# Altium schematic symbol library kmilo17pet-NSC_Amplifier.SchLib: 1665 symbols (part 11 of 44)
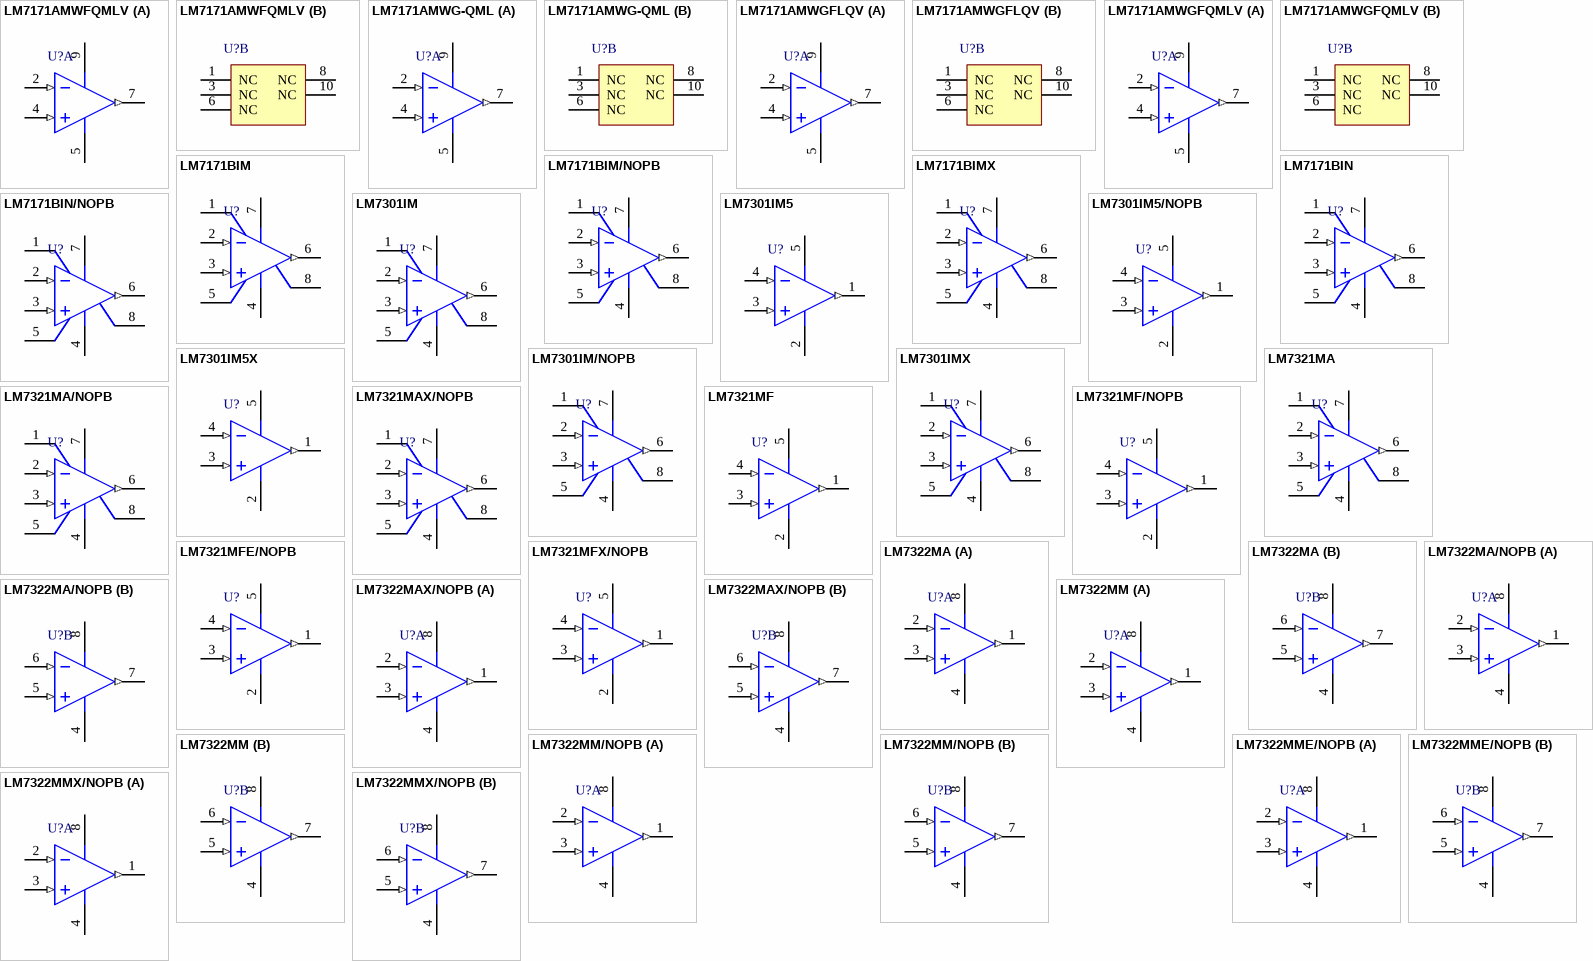
[diagram p94: symbols LM7171AMWFQMLV to LM7322MMX/NOPB]

## LM7322MM/NOPB
designator U?
Dual Rail-to-Rail Input/Output, ±15V, High Output Current and Unlimited Capacitive Load Operational Amplifier, 8-pin Mini SOIC, Pb-Free; PartNumber: LM7322MM/NOPB; Manufacturer: National Semiconductor; PackageTopMarking: ZXTT*AZ4A; PowerWise: Y; CompType: Amplifiers; DatasheetVersion: Sep-2008; PackageVersion: revF, Apr-2008; PackageReference: MUA08A; PackageDescription: MINI SOIC, .118 x .118 x .034in, 8 Lead, .0256in Pitch; RoHS: Y; PinCount: 8; High-Reliability: Y; Code_JEDEC: MO-187-AA; ComponentLink1Description: Manufacturer URL; ComponentLink1URL: http://www.national.com/; ComponentLink2Description: LM7322 Datasheet; ComponentLink2URL: http://www.national.com/ds/LM/LM7322.pdf; ComponentLink3Description: LM7322 Web Page; ComponentLink3URL: http://www.national.com/pf/LM/LM7322.html; ComponentLink4Description: MUA08A Package Page; ComponentLink4URL: http://www.national.com/packaging/folders/mua08a.html
footprint MUA08A_N (TSOP, 8-Leads, Body 3x3mm, Pitch 0.65mm, IPC Medium Density)
footprint MUA08A_L (TSOP, 8-Leads, Body 3x3mm, Pitch 0.65mm, IPC High Density)
footprint MUA08A_M (TSOP, 8-Leads, Body 3x3mm, Pitch 0.65mm, IPC Low Density)
pins on every part: 4 V- (power), 8 V+ (power)
part A pins: 1 OUTA (out), 2 INA- (in), 3 INA+ (in)
part B pins: 5 INB+ (in), 6 INB- (in), 7 OUTB (out)

## LM7322MME/NOPB
designator U?
Dual Rail-to-Rail Input/Output, ±15V, High Output Current and Unlimited Capacitive Load Operational Amplifier, 8-pin Mini SOIC, Pb-Free; PartNumber: LM7322MME/NOPB; Manufacturer: National Semiconductor; PackageTopMarking: ZXTT*AZ4A; PowerWise: Y; CompType: Amplifiers; DatasheetVersion: Sep-2008; PackageVersion: revF, Apr-2008; PackageReference: MUA08A; PackageDescription: MINI SOIC, .118 x .118 x .034in, 8 Lead, .0256in Pitch; RoHS: Y; PinCount: 8; High-Reliability: Y; Code_JEDEC: MO-187-AA; ComponentLink1Description: Manufacturer URL; ComponentLink1URL: http://www.national.com/; ComponentLink2Description: LM7322 Datasheet; ComponentLink2URL: http://www.national.com/ds/LM/LM7322.pdf; ComponentLink3Description: LM7322 Web Page; ComponentLink3URL: http://www.national.com/pf/LM/LM7322.html; ComponentLink4Description: MUA08A Package Page; ComponentLink4URL: http://www.national.com/packaging/folders/mua08a.html
footprint MUA08A_N (TSOP, 8-Leads, Body 3x3mm, Pitch 0.65mm, IPC Medium Density)
footprint MUA08A_L (TSOP, 8-Leads, Body 3x3mm, Pitch 0.65mm, IPC High Density)
footprint MUA08A_M (TSOP, 8-Leads, Body 3x3mm, Pitch 0.65mm, IPC Low Density)
pins on every part: 4 V- (power), 8 V+ (power)
part A pins: 1 OUTA (out), 2 INA- (in), 3 INA+ (in)
part B pins: 5 INB+ (in), 6 INB- (in), 7 OUTB (out)

## LM7322MMX/NOPB
designator U?
Dual Rail-to-Rail Input/Output, ±15V, High Output Current and Unlimited Capacitive Load Operational Amplifier, 8-pin Mini SOIC, Pb-Free; PartNumber: LM7322MMX/NOPB; Manufacturer: National Semiconductor; PackageTopMarking: ZXTT*AZ4A; PowerWise: Y; CompType: Amplifiers; DatasheetVersion: Sep-2008; PackageVersion: revF, Apr-2008; PackageReference: MUA08A; PackageDescription: MINI SOIC, .118 x .118 x .034in, 8 Lead, .0256in Pitch; RoHS: Y; PinCount: 8; High-Reliability: Y; Code_JEDEC: MO-187-AA; ComponentLink1Description: Manufacturer URL; ComponentLink1URL: http://www.national.com/; ComponentLink2Description: LM7322 Datasheet; ComponentLink2URL: http://www.national.com/ds/LM/LM7322.pdf; ComponentLink3Description: LM7322 Web Page; ComponentLink3URL: http://www.national.com/pf/LM/LM7322.html; ComponentLink4Description: MUA08A Package Page; ComponentLink4URL: http://www.national.com/packaging/folders/mua08a.html
footprint MUA08A_N (TSOP, 8-Leads, Body 3x3mm, Pitch 0.65mm, IPC Medium Density)
footprint MUA08A_L (TSOP, 8-Leads, Body 3x3mm, Pitch 0.65mm, IPC High Density)
footprint MUA08A_M (TSOP, 8-Leads, Body 3x3mm, Pitch 0.65mm, IPC Low Density)
pins on every part: 4 V- (power), 8 V+ (power)
part A pins: 1 OUTA (out), 2 INA- (in), 3 INA+ (in)
part B pins: 5 INB+ (in), 6 INB- (in), 7 OUTB (out)

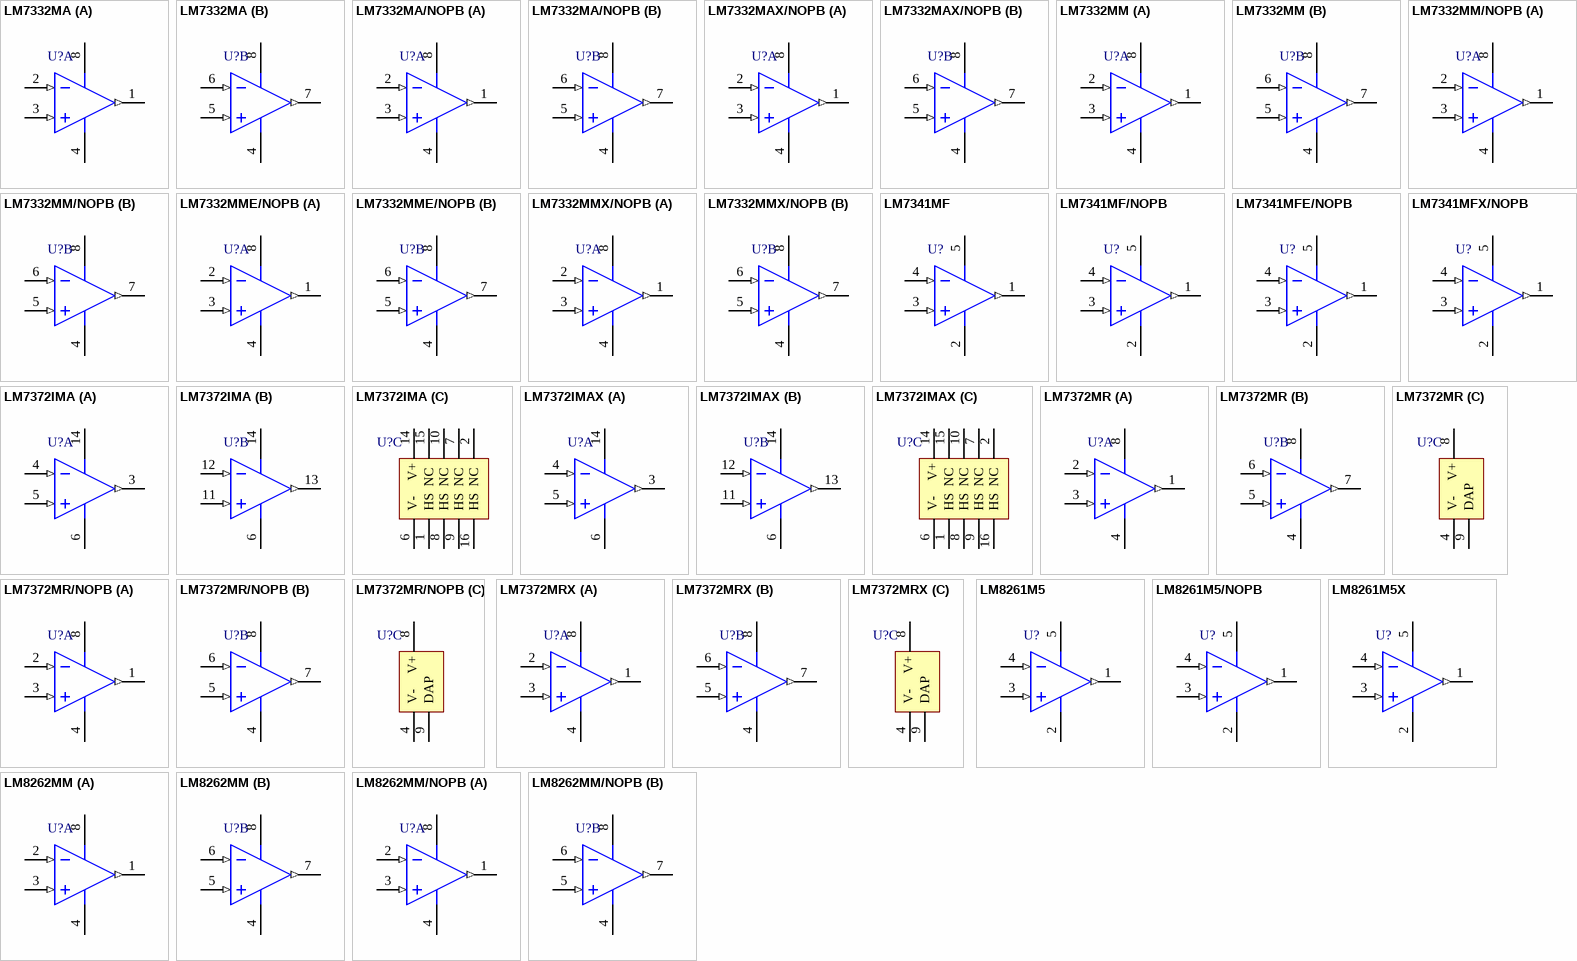
[diagram p24: symbols LM7332MA to LM8262MM/NOPB]

## LM7332MA
designator U?
Dual Rail-to-Rail Input/Output, 30V, Wide Voltage Range, High Output Operational Amplifier, 8-pin Narrow SOIC; PartNumber: LM7332MA; Manufacturer: National Semiconductor; PackageTopMarking: NSZXTT*LM733*2MA; PowerWise: N; CompType: Amplifiers; High-Reliability: Y; DatasheetVersion: Apr-2008; PackageVersion: revM, May-2009; PackageReference: M08A; PackageDescription: SOIC Narrow, 4.9 x 3.9 x 1.45mm, 8 Lead, 1.27mm Pitch; RoHS: Y; PinCount: 8; Code_JEDEC: MS-012-AA; Code_IPC: SOIC127P600-8; ComponentLink1Description: Manufacturer URL; ComponentLink1URL: http://www.national.com/; ComponentLink2Description: LM7332 Datasheet; ComponentLink2URL: http://www.national.com/ds/LM/LM7332.pdf; ComponentLink3Description: LM7332 Web Page; ComponentLink3URL: http://www.national.com/pf/LM/LM7332.html; ComponentLink4Description: M08A Package Page; ComponentLink4URL: http://www.national.com/packaging/folders/m08a.html
footprint M08A_N (SOIC, 8-Leads, Body 4.9x3.9mm, Pitch 1.27mm, IPC Medium Density)
footprint M08A_L (SOIC, 8-Leads, Body 4.9x3.9mm, Pitch 1.27mm, IPC High Density)
footprint M08A_M (SOIC, 8-Leads, Body 4.9x3.9mm, Pitch 1.27mm, IPC Low Density)
pins on every part: 4 V- (power), 8 V+ (power)
part A pins: 1 OUTA (out), 2 INA- (in), 3 INA+ (in)
part B pins: 5 INB+ (in), 6 INB- (in), 7 OUTB (out)

## LM7332MA/NOPB
designator U?
Dual Rail-to-Rail Input/Output, 30V, Wide Voltage Range, High Output Operational Amplifier, 8-pin Narrow SOIC, Pb-Free; PartNumber: LM7332MA/NOPB; Manufacturer: National Semiconductor; PackageTopMarking: NSZXTT*LM733*2MA; PowerWise: N; CompType: Amplifiers; High-Reliability: Y; DatasheetVersion: Apr-2008; PackageVersion: revM, May-2009; PackageReference: M08A; PackageDescription: SOIC Narrow, 4.9 x 3.9 x 1.45mm, 8 Lead, 1.27mm Pitch; RoHS: Y; PinCount: 8; Code_JEDEC: MS-012-AA; Code_IPC: SOIC127P600-8; ComponentLink1Description: Manufacturer URL; ComponentLink1URL: http://www.national.com/; ComponentLink2Description: LM7332 Datasheet; ComponentLink2URL: http://www.national.com/ds/LM/LM7332.pdf; ComponentLink3Description: LM7332 Web Page; ComponentLink3URL: http://www.national.com/pf/LM/LM7332.html; ComponentLink4Description: M08A Package Page; ComponentLink4URL: http://www.national.com/packaging/folders/m08a.html
footprint M08A_N (SOIC, 8-Leads, Body 4.9x3.9mm, Pitch 1.27mm, IPC Medium Density)
footprint M08A_L (SOIC, 8-Leads, Body 4.9x3.9mm, Pitch 1.27mm, IPC High Density)
footprint M08A_M (SOIC, 8-Leads, Body 4.9x3.9mm, Pitch 1.27mm, IPC Low Density)
pins on every part: 4 V- (power), 8 V+ (power)
part A pins: 1 OUTA (out), 2 INA- (in), 3 INA+ (in)
part B pins: 5 INB+ (in), 6 INB- (in), 7 OUTB (out)

## LM7332MAX/NOPB
designator U?
Dual Rail-to-Rail Input/Output, 30V, Wide Voltage Range, High Output Operational Amplifier, 8-pin Narrow SOIC, Pb-Free; PartNumber: LM7332MAX/NOPB; Manufacturer: National Semiconductor; PackageTopMarking: NSZXTT*LM733*2MA; PowerWise: N; CompType: Amplifiers; High-Reliability: Y; DatasheetVersion: Apr-2008; PackageVersion: revM, May-2009; PackageReference: M08A; PackageDescription: SOIC Narrow, 4.9 x 3.9 x 1.45mm, 8 Lead, 1.27mm Pitch; RoHS: Y; PinCount: 8; Code_JEDEC: MS-012-AA; Code_IPC: SOIC127P600-8; ComponentLink1Description: Manufacturer URL; ComponentLink1URL: http://www.national.com/; ComponentLink2Description: LM7332 Datasheet; ComponentLink2URL: http://www.national.com/ds/LM/LM7332.pdf; ComponentLink3Description: LM7332 Web Page; ComponentLink3URL: http://www.national.com/pf/LM/LM7332.html; ComponentLink4Description: M08A Package Page; ComponentLink4URL: http://www.national.com/packaging/folders/m08a.html
footprint M08A_N (SOIC, 8-Leads, Body 4.9x3.9mm, Pitch 1.27mm, IPC Medium Density)
footprint M08A_L (SOIC, 8-Leads, Body 4.9x3.9mm, Pitch 1.27mm, IPC High Density)
footprint M08A_M (SOIC, 8-Leads, Body 4.9x3.9mm, Pitch 1.27mm, IPC Low Density)
pins on every part: 4 V- (power), 8 V+ (power)
part A pins: 1 OUTA (out), 2 INA- (in), 3 INA+ (in)
part B pins: 5 INB+ (in), 6 INB- (in), 7 OUTB (out)

## LM7332MM
designator U?
Dual Rail-to-Rail Input/Output, 30V, Wide Voltage Range, High Output Operational Amplifier, 8-pin Mini SOIC; PartNumber: LM7332MM; Manufacturer: National Semiconductor; PackageTopMarking: ZXTT*AA5A; PowerWise: N; CompType: Amplifiers; High-Reliability: Y; DatasheetVersion: Apr-2008; PackageVersion: revF, Apr-2008; PackageReference: MUA08A; PackageDescription: MINI SOIC, .118 x .118 x .034in, 8 Lead, .0256in Pitch; RoHS: Y; PinCount: 8; Code_JEDEC: MO-187-AA; ComponentLink1Description: Manufacturer URL; ComponentLink1URL: http://www.national.com/; ComponentLink2Description: LM7332 Datasheet; ComponentLink2URL: http://www.national.com/ds/LM/LM7332.pdf; ComponentLink3Description: LM7332 Web Page; ComponentLink3URL: http://www.national.com/pf/LM/LM7332.html; ComponentLink4Description: MUA08A Package Page; ComponentLink4URL: http://www.national.com/packaging/folders/mua08a.html
footprint MUA08A_N (TSOP, 8-Leads, Body 3x3mm, Pitch 0.65mm, IPC Medium Density)
footprint MUA08A_L (TSOP, 8-Leads, Body 3x3mm, Pitch 0.65mm, IPC High Density)
footprint MUA08A_M (TSOP, 8-Leads, Body 3x3mm, Pitch 0.65mm, IPC Low Density)
pins on every part: 4 V- (power), 8 V+ (power)
part A pins: 1 OUTA (out), 2 INA- (in), 3 INA+ (in)
part B pins: 5 INB+ (in), 6 INB- (in), 7 OUTB (out)

## LM7332MM/NOPB
designator U?
Dual Rail-to-Rail Input/Output, 30V, Wide Voltage Range, High Output Operational Amplifier, 8-pin Mini SOIC, Pb-Free; PartNumber: LM7332MM/NOPB; Manufacturer: National Semiconductor; PackageTopMarking: ZXTT*AA5A; PowerWise: N; CompType: Amplifiers; High-Reliability: Y; DatasheetVersion: Apr-2008; PackageVersion: revF, Apr-2008; PackageReference: MUA08A; PackageDescription: MINI SOIC, .118 x .118 x .034in, 8 Lead, .0256in Pitch; RoHS: Y; PinCount: 8; Code_JEDEC: MO-187-AA; ComponentLink1Description: Manufacturer URL; ComponentLink1URL: http://www.national.com/; ComponentLink2Description: LM7332 Datasheet; ComponentLink2URL: http://www.national.com/ds/LM/LM7332.pdf; ComponentLink3Description: LM7332 Web Page; ComponentLink3URL: http://www.national.com/pf/LM/LM7332.html; ComponentLink4Description: MUA08A Package Page; ComponentLink4URL: http://www.national.com/packaging/folders/mua08a.html
footprint MUA08A_N (TSOP, 8-Leads, Body 3x3mm, Pitch 0.65mm, IPC Medium Density)
footprint MUA08A_L (TSOP, 8-Leads, Body 3x3mm, Pitch 0.65mm, IPC High Density)
footprint MUA08A_M (TSOP, 8-Leads, Body 3x3mm, Pitch 0.65mm, IPC Low Density)
pins on every part: 4 V- (power), 8 V+ (power)
part A pins: 1 OUTA (out), 2 INA- (in), 3 INA+ (in)
part B pins: 5 INB+ (in), 6 INB- (in), 7 OUTB (out)

## LM7332MME/NOPB
designator U?
Dual Rail-to-Rail Input/Output, 30V, Wide Voltage Range, High Output Operational Amplifier, 8-pin Mini SOIC, Pb-Free; PartNumber: LM7332MME/NOPB; Manufacturer: National Semiconductor; PackageTopMarking: ZXTT*AA5A; PowerWise: N; CompType: Amplifiers; High-Reliability: Y; DatasheetVersion: Apr-2008; PackageVersion: revF, Apr-2008; PackageReference: MUA08A; PackageDescription: MINI SOIC, .118 x .118 x .034in, 8 Lead, .0256in Pitch; RoHS: Y; PinCount: 8; Code_JEDEC: MO-187-AA; ComponentLink1Description: Manufacturer URL; ComponentLink1URL: http://www.national.com/; ComponentLink2Description: LM7332 Datasheet; ComponentLink2URL: http://www.national.com/ds/LM/LM7332.pdf; ComponentLink3Description: LM7332 Web Page; ComponentLink3URL: http://www.national.com/pf/LM/LM7332.html; ComponentLink4Description: MUA08A Package Page; ComponentLink4URL: http://www.national.com/packaging/folders/mua08a.html
footprint MUA08A_N (TSOP, 8-Leads, Body 3x3mm, Pitch 0.65mm, IPC Medium Density)
footprint MUA08A_L (TSOP, 8-Leads, Body 3x3mm, Pitch 0.65mm, IPC High Density)
footprint MUA08A_M (TSOP, 8-Leads, Body 3x3mm, Pitch 0.65mm, IPC Low Density)
pins on every part: 4 V- (power), 8 V+ (power)
part A pins: 1 OUTA (out), 2 INA- (in), 3 INA+ (in)
part B pins: 5 INB+ (in), 6 INB- (in), 7 OUTB (out)

## LM7332MMX/NOPB
designator U?
Dual Rail-to-Rail Input/Output, 30V, Wide Voltage Range, High Output Operational Amplifier, 8-pin Mini SOIC, Pb-Free; PartNumber: LM7332MMX/NOPB; Manufacturer: National Semiconductor; PackageTopMarking: ZXTT*AA5A; PowerWise: N; CompType: Amplifiers; High-Reliability: Y; DatasheetVersion: Apr-2008; PackageVersion: revF, Apr-2008; PackageReference: MUA08A; PackageDescription: MINI SOIC, .118 x .118 x .034in, 8 Lead, .0256in Pitch; RoHS: Y; PinCount: 8; Code_JEDEC: MO-187-AA; ComponentLink1Description: Manufacturer URL; ComponentLink1URL: http://www.national.com/; ComponentLink2Description: LM7332 Datasheet; ComponentLink2URL: http://www.national.com/ds/LM/LM7332.pdf; ComponentLink3Description: LM7332 Web Page; ComponentLink3URL: http://www.national.com/pf/LM/LM7332.html; ComponentLink4Description: MUA08A Package Page; ComponentLink4URL: http://www.national.com/packaging/folders/mua08a.html
footprint MUA08A_N (TSOP, 8-Leads, Body 3x3mm, Pitch 0.65mm, IPC Medium Density)
footprint MUA08A_L (TSOP, 8-Leads, Body 3x3mm, Pitch 0.65mm, IPC High Density)
footprint MUA08A_M (TSOP, 8-Leads, Body 3x3mm, Pitch 0.65mm, IPC Low Density)
pins on every part: 4 V- (power), 8 V+ (power)
part A pins: 1 OUTA (out), 2 INA- (in), 3 INA+ (in)
part B pins: 5 INB+ (in), 6 INB- (in), 7 OUTB (out)

## LM7341MF
designator U?
Rail-to-Rail Input/Output, ±15V, 4.6 MHz GBW, Operational Amplifier, 5-pin SOT-23; PartNumber: LM7341MF; Manufacturer: National Semiconductor; PackageTopMarking: AV4A*XTT; PowerWise: N; CompType: Amplifiers; High-Reliability: Y; DatasheetVersion: Oct-2008; PackageVersion: revD, Aug-2008; PackageReference: MF05A; PackageDescription: Molded SOT-23, .115 x .063 x .040 in Body, 5 Lead, .0375 in Pitch; RoHS: Y; PinCount: 5; ComponentLink1Description: Manufacturer URL; ComponentLink1URL: http://www.national.com/; ComponentLink2Description: LM7341 Datasheet; ComponentLink2URL: http://www.national.com/ds/LM/LM7341.pdf; ComponentLink3Description: LM7341 Web Page; ComponentLink3URL: http://www.national.com/pf/LM/LM7341.html; ComponentLink4Description: MF05A Package Page; ComponentLink4URL: http://www.national.com/packaging/folders/mf05a.html
footprint MF05A_N (SOT23, 5-Leads, Body 2.9x1.6mm, Pitch 0.95mm, Lead Span 2.8mm, IPC Medium Density)
footprint MF05A_L (SOT23, 5-Leads, Body 2.9x1.6mm, Pitch 0.95mm, Lead Span 2.8mm, IPC High Density)
footprint MF05A_M (SOT23, 5-Leads, Body 2.9x1.6mm, Pitch 0.95mm, Lead Span 2.8mm, IPC Low Density)
pins: 1 OUT (out), 2 V- (power), 3 IN+ (in), 4 IN- (in), 5 V+ (power)

## LM7341MF/NOPB
designator U?
Rail-to-Rail Input/Output, ±15V, 4.6 MHz GBW, Operational Amplifier, 5-pin SOT-23, Pb-Free; PartNumber: LM7341MF/NOPB; Manufacturer: National Semiconductor; PackageTopMarking: AV4A*XTT; PowerWise: N; CompType: Amplifiers; High-Reliability: Y; DatasheetVersion: Oct-2008; PackageVersion: revD, Aug-2008; PackageReference: MF05A; PackageDescription: Molded SOT-23, .115 x .063 x .040 in Body, 5 Lead, .0375 in Pitch; RoHS: Y; PinCount: 5; ComponentLink1Description: Manufacturer URL; ComponentLink1URL: http://www.national.com/; ComponentLink2Description: LM7341 Datasheet; ComponentLink2URL: http://www.national.com/ds/LM/LM7341.pdf; ComponentLink3Description: LM7341 Web Page; ComponentLink3URL: http://www.national.com/pf/LM/LM7341.html; ComponentLink4Description: MF05A Package Page; ComponentLink4URL: http://www.national.com/packaging/folders/mf05a.html
footprint MF05A_N (SOT23, 5-Leads, Body 2.9x1.6mm, Pitch 0.95mm, Lead Span 2.8mm, IPC Medium Density)
footprint MF05A_L (SOT23, 5-Leads, Body 2.9x1.6mm, Pitch 0.95mm, Lead Span 2.8mm, IPC High Density)
footprint MF05A_M (SOT23, 5-Leads, Body 2.9x1.6mm, Pitch 0.95mm, Lead Span 2.8mm, IPC Low Density)
pins: 1 OUT (out), 2 V- (power), 3 IN+ (in), 4 IN- (in), 5 V+ (power)

## LM7341MFE/NOPB
designator U?
Rail-to-Rail Input/Output, ±15V, 4.6 MHz GBW, Operational Amplifier, 5-pin SOT-23, Pb-Free; PartNumber: LM7341MFE/NOPB; Manufacturer: National Semiconductor; PackageTopMarking: AV4A*XTT; PowerWise: N; CompType: Amplifiers; High-Reliability: Y; DatasheetVersion: Oct-2008; PackageVersion: revD, Aug-2008; PackageReference: MF05A; PackageDescription: Molded SOT-23, .115 x .063 x .040 in Body, 5 Lead, .0375 in Pitch; RoHS: Y; PinCount: 5; ComponentLink1Description: Manufacturer URL; ComponentLink1URL: http://www.national.com/; ComponentLink2Description: LM7341 Datasheet; ComponentLink2URL: http://www.national.com/ds/LM/LM7341.pdf; ComponentLink3Description: LM7341 Web Page; ComponentLink3URL: http://www.national.com/pf/LM/LM7341.html; ComponentLink4Description: MF05A Package Page; ComponentLink4URL: http://www.national.com/packaging/folders/mf05a.html
footprint MF05A_N (SOT23, 5-Leads, Body 2.9x1.6mm, Pitch 0.95mm, Lead Span 2.8mm, IPC Medium Density)
footprint MF05A_L (SOT23, 5-Leads, Body 2.9x1.6mm, Pitch 0.95mm, Lead Span 2.8mm, IPC High Density)
footprint MF05A_M (SOT23, 5-Leads, Body 2.9x1.6mm, Pitch 0.95mm, Lead Span 2.8mm, IPC Low Density)
pins: 1 OUT (out), 2 V- (power), 3 IN+ (in), 4 IN- (in), 5 V+ (power)

## LM7341MFX/NOPB
designator U?
Rail-to-Rail Input/Output, ±15V, 4.6 MHz GBW, Operational Amplifier, 5-pin SOT-23, Pb-Free; PartNumber: LM7341MFX/NOPB; Manufacturer: National Semiconductor; PackageTopMarking: AV4A*XTT; PowerWise: N; CompType: Amplifiers; High-Reliability: Y; DatasheetVersion: Oct-2008; PackageVersion: revD, Aug-2008; PackageReference: MF05A; PackageDescription: Molded SOT-23, .115 x .063 x .040 in Body, 5 Lead, .0375 in Pitch; RoHS: Y; PinCount: 5; ComponentLink1Description: Manufacturer URL; ComponentLink1URL: http://www.national.com/; ComponentLink2Description: LM7341 Datasheet; ComponentLink2URL: http://www.national.com/ds/LM/LM7341.pdf; ComponentLink3Description: LM7341 Web Page; ComponentLink3URL: http://www.national.com/pf/LM/LM7341.html; ComponentLink4Description: MF05A Package Page; ComponentLink4URL: http://www.national.com/packaging/folders/mf05a.html
footprint MF05A_N (SOT23, 5-Leads, Body 2.9x1.6mm, Pitch 0.95mm, Lead Span 2.8mm, IPC Medium Density)
footprint MF05A_L (SOT23, 5-Leads, Body 2.9x1.6mm, Pitch 0.95mm, Lead Span 2.8mm, IPC High Density)
footprint MF05A_M (SOT23, 5-Leads, Body 2.9x1.6mm, Pitch 0.95mm, Lead Span 2.8mm, IPC Low Density)
pins: 1 OUT (out), 2 V- (power), 3 IN+ (in), 4 IN- (in), 5 V+ (power)

## LM7372IMA
designator U?
High Speed, High Output Current, Dual Operational Amplifier, 16-pin Narrow SOIC; PartNumber: LM7372IMA; Manufacturer: National Semiconductor; PackageTopMarking: NSUZXYTTE#*LM7372IMA; PowerWise: N; CompType: Amplifiers; High-Reliability: Y; DatasheetVersion: Jun-2008; PackageVersion: revJ, Aug-1995; PackageReference: M16A; PackageDescription: Molded Package, SO, .150in Wide, 16 Lead; RoHS: N; PinCount: 16; Code_JEDEC: MS-012-AC; Code_IPC: SOIC127P600-16; ComponentLink1Description: Manufacturer URL; ComponentLink1URL: http://www.national.com/; ComponentLink2Description: LM7372 Datasheet; ComponentLink2URL: http://www.national.com/ds/LM/LM7372.pdf; ComponentLink3Description: LM7372 Web Page; ComponentLink3URL: http://www.national.com/pf/LM/LM7372.html; ComponentLink4Description: M16A Package Page; ComponentLink4URL: http://www.national.com/packaging/folders/m16a.html
footprint M16A_N (SOIC, 16-Leads, Body 9.9x3.9mm, Pitch 1.27mm, IPC Medium Density)
footprint M16A_L (SOIC, 16-Leads, Body 9.9x3.9mm, Pitch 1.27mm, IPC High Density)
footprint M16A_M (SOIC, 16-Leads, Body 9.9x3.9mm, Pitch 1.27mm, IPC Low Density)
pins on every part: 6 V- (power), 14 V+ (power)
part A pins: 3 OUTA (out), 4 INA- (in), 5 INA+ (in)
part B pins: 11 INB+ (in), 12 INB- (in), 13 OUTB (out)
part C pins: 1 HS, 2 NC, 7 NC, 8 HS, 9 HS, 10 NC, 15 NC, 16 HS

## LM7372IMAX
designator U?
High Speed, High Output Current, Dual Operational Amplifier, 16-pin Narrow SOIC; PartNumber: LM7372IMAX; Manufacturer: National Semiconductor; PackageTopMarking: NSUZXYTTE#*LM7372IMA; PowerWise: N; CompType: Amplifiers; High-Reliability: Y; DatasheetVersion: Jun-2008; PackageVersion: revJ, Aug-1995; PackageReference: M16A; PackageDescription: Molded Package, SO, .150in Wide, 16 Lead; RoHS: N; PinCount: 16; Code_JEDEC: MS-012-AC; Code_IPC: SOIC127P600-16; ComponentLink1Description: Manufacturer URL; ComponentLink1URL: http://www.national.com/; ComponentLink2Description: LM7372 Datasheet; ComponentLink2URL: http://www.national.com/ds/LM/LM7372.pdf; ComponentLink3Description: LM7372 Web Page; ComponentLink3URL: http://www.national.com/pf/LM/LM7372.html; ComponentLink4Description: M16A Package Page; ComponentLink4URL: http://www.national.com/packaging/folders/m16a.html
footprint M16A_N (SOIC, 16-Leads, Body 9.9x3.9mm, Pitch 1.27mm, IPC Medium Density)
footprint M16A_L (SOIC, 16-Leads, Body 9.9x3.9mm, Pitch 1.27mm, IPC High Density)
footprint M16A_M (SOIC, 16-Leads, Body 9.9x3.9mm, Pitch 1.27mm, IPC Low Density)
pins on every part: 6 V- (power), 14 V+ (power)
part A pins: 3 OUTA (out), 4 INA- (in), 5 INA+ (in)
part B pins: 11 INB+ (in), 12 INB- (in), 13 OUTB (out)
part C pins: 1 HS, 2 NC, 7 NC, 8 HS, 9 HS, 10 NC, 15 NC, 16 HS

## LM7372MR
designator U?
High Speed, High Output Current, Dual Operational Amplifier, 9-pin PSOP; PartNumber: LM7372MR; Manufacturer: National Semiconductor; PackageTopMarking: NSXYTT*LM73*72MR; PowerWise: N; CompType: Amplifiers; High-Reliability: Y; DatasheetVersion: Jun-2008; PackageVersion: revB, Dec-2007; PackageReference: MRA08B; PackageDescription: Molded, PSOP .193 x .154 x .058in, 8 Lead, .050in Pitch, Large DAP; RoHS: N; PinCount: 8; Code_JEDEC: MS-012-AA; ComponentLink1Description: Manufacturer URL; ComponentLink1URL: http://www.national.com/; ComponentLink2Description: LM7372 Datasheet; ComponentLink2URL: http://www.national.com/ds/LM/LM7372.pdf; ComponentLink3Description: LM7372 Web Page; ComponentLink3URL: http://www.national.com/pf/LM/LM7372.html; ComponentLink4Description: MRA08B Package Page; ComponentLink4URL: http://www.national.com/packaging/folders/mra08b.html
footprint MRA08B_N (SOIC, 8-Leads, Body 4.9x3.9mm, Pitch 1.27mm, Thermal Pad, IPC Medium Density)
footprint MRA08B_L (SOIC, 8-Leads, Body 4.9x3.9mm, Pitch 1.27mm, Thermal Pad, IPC High Density)
footprint MRA08B_M (SOIC, 8-Leads, Body 4.9x3.9mm, Pitch 1.27mm, Thermal Pad, IPC Low Density)
pins on every part: 4 V- (power), 8 V+ (power)
part A pins: 1 OUTA (out), 2 INA- (in), 3 INA+ (in)
part B pins: 5 INB+ (in), 6 INB- (in), 7 OUTB (out)
part C pins: 9 DAP

## LM7372MR/NOPB
designator U?
High Speed, High Output Current, Dual Operational Amplifier, 8-pin PSOP, Pb-Free; PartNumber: LM7372MR/NOPB; Manufacturer: National Semiconductor; PackageTopMarking: NSXYTT*LM73*72MR; PowerWise: N; CompType: Amplifiers; High-Reliability: Y; DatasheetVersion: Jun-2008; PackageVersion: revB, Dec-2007; PackageReference: MRA08B; PackageDescription: Molded, PSOP .193 x .154 x .058in, 8 Lead, .050in Pitch, Large DAP; RoHS: Y; PinCount: 8; Code_JEDEC: MS-012-AA; ComponentLink1Description: Manufacturer URL; ComponentLink1URL: http://www.national.com/; ComponentLink2Description: LM7372 Datasheet; ComponentLink2URL: http://www.national.com/ds/LM/LM7372.pdf; ComponentLink3Description: LM7372 Web Page; ComponentLink3URL: http://www.national.com/pf/LM/LM7372.html; ComponentLink4Description: MRA08B Package Page; ComponentLink4URL: http://www.national.com/packaging/folders/mra08b.html
footprint MRA08B_N (SOIC, 8-Leads, Body 4.9x3.9mm, Pitch 1.27mm, Thermal Pad, IPC Medium Density)
footprint MRA08B_L (SOIC, 8-Leads, Body 4.9x3.9mm, Pitch 1.27mm, Thermal Pad, IPC High Density)
footprint MRA08B_M (SOIC, 8-Leads, Body 4.9x3.9mm, Pitch 1.27mm, Thermal Pad, IPC Low Density)
pins on every part: 4 V- (power), 8 V+ (power)
part A pins: 1 OUTA (out), 2 INA- (in), 3 INA+ (in)
part B pins: 5 INB+ (in), 6 INB- (in), 7 OUTB (out)
part C pins: 9 DAP

## LM7372MRX
designator U?
High Speed, High Output Current, Dual Operational Amplifier, 8-pin PSOP; PartNumber: LM7372MRX; Manufacturer: National Semiconductor; PackageTopMarking: NSXYTT*LM73*72MR; PowerWise: N; CompType: Amplifiers; High-Reliability: Y; DatasheetVersion: Jun-2008; PackageVersion: revB, Dec-2007; PackageReference: MRA08B; PackageDescription: Molded, PSOP .193 x .154 x .058in, 8 Lead, .050in Pitch, Large DAP; RoHS: N; PinCount: 8; Code_JEDEC: MS-012-AA; ComponentLink1Description: Manufacturer URL; ComponentLink1URL: http://www.national.com/; ComponentLink2Description: LM7372 Datasheet; ComponentLink2URL: http://www.national.com/ds/LM/LM7372.pdf; ComponentLink3Description: LM7372 Web Page; ComponentLink3URL: http://www.national.com/pf/LM/LM7372.html; ComponentLink4Description: MRA08B Package Page; ComponentLink4URL: http://www.national.com/packaging/folders/mra08b.html
footprint MRA08B_N (SOIC, 8-Leads, Body 4.9x3.9mm, Pitch 1.27mm, Thermal Pad, IPC Medium Density)
footprint MRA08B_L (SOIC, 8-Leads, Body 4.9x3.9mm, Pitch 1.27mm, Thermal Pad, IPC High Density)
footprint MRA08B_M (SOIC, 8-Leads, Body 4.9x3.9mm, Pitch 1.27mm, Thermal Pad, IPC Low Density)
pins on every part: 4 V- (power), 8 V+ (power)
part A pins: 1 OUTA (out), 2 INA- (in), 3 INA+ (in)
part B pins: 5 INB+ (in), 6 INB- (in), 7 OUTB (out)
part C pins: 9 DAP

## LM8261M5
designator U?
RRIO, High Output Current & Unlimited Cap Load Op Amp, 5-pin SOT-23; PartNumber: LM8261M5; Manufacturer: National Semiconductor; PackageTopMarking: A45A*XTT; PowerWise: N; CompType: Amplifiers; High-Reliability: Y; DatasheetVersion: Apr-2006; PackageVersion: revD, Aug-2008; PackageReference: MF05A; PackageDescription: Molded SOT-23, .115 x .063 x .040 in Body, 5 Lead, .0375 in Pitch; RoHS: N; PinCount: 5; ComponentLink1Description: Manufacturer URL; ComponentLink1URL: http://www.national.com/; ComponentLink2Description: LM8261 Datasheet; ComponentLink2URL: http://www.national.com/ds/LM/LM8261.pdf; ComponentLink3Description: LM8261 Web Page; ComponentLink3URL: http://www.national.com/pf/LM/LM8261.html; ComponentLink4Description: MF05A Package Page; ComponentLink4URL: http://www.national.com/packaging/folders/mf05a.html
footprint MF05A_N (SOT23, 5-Leads, Body 2.9x1.6mm, Pitch 0.95mm, Lead Span 2.8mm, IPC Medium Density)
footprint MF05A_L (SOT23, 5-Leads, Body 2.9x1.6mm, Pitch 0.95mm, Lead Span 2.8mm, IPC High Density)
footprint MF05A_M (SOT23, 5-Leads, Body 2.9x1.6mm, Pitch 0.95mm, Lead Span 2.8mm, IPC Low Density)
pins: 1 OUT (out), 2 V- (power), 3 IN+ (in), 4 IN- (in), 5 V+ (power)

## LM8261M5/NOPB
designator U?
RRIO, High Output Current & Unlimited Cap Load Op Amp, 5-pin SOT-23, Pb-Free; PartNumber: LM8261M5/NOPB; Manufacturer: National Semiconductor; PackageTopMarking: A45A*XTT; PowerWise: N; CompType: Amplifiers; High-Reliability: Y; DatasheetVersion: Apr-2006; PackageVersion: revD, Aug-2008; PackageReference: MF05A; PackageDescription: Molded SOT-23, .115 x .063 x .040 in Body, 5 Lead, .0375 in Pitch; RoHS: Y; PinCount: 5; ComponentLink1Description: Manufacturer URL; ComponentLink1URL: http://www.national.com/; ComponentLink2Description: LM8261 Datasheet; ComponentLink2URL: http://www.national.com/ds/LM/LM8261.pdf; ComponentLink3Description: LM8261 Web Page; ComponentLink3URL: http://www.national.com/pf/LM/LM8261.html; ComponentLink4Description: MF05A Package Page; ComponentLink4URL: http://www.national.com/packaging/folders/mf05a.html
footprint MF05A_N (SOT23, 5-Leads, Body 2.9x1.6mm, Pitch 0.95mm, Lead Span 2.8mm, IPC Medium Density)
footprint MF05A_L (SOT23, 5-Leads, Body 2.9x1.6mm, Pitch 0.95mm, Lead Span 2.8mm, IPC High Density)
footprint MF05A_M (SOT23, 5-Leads, Body 2.9x1.6mm, Pitch 0.95mm, Lead Span 2.8mm, IPC Low Density)
pins: 1 OUT (out), 2 V- (power), 3 IN+ (in), 4 IN- (in), 5 V+ (power)

## LM8261M5X
designator U?
RRIO, High Output Current & Unlimited Cap Load Op Amp, 5-pin SOT-23; PartNumber: LM8261M5X; Manufacturer: National Semiconductor; PackageTopMarking: A45A*XTT; PowerWise: N; CompType: Amplifiers; High-Reliability: Y; DatasheetVersion: Apr-2006; PackageVersion: revD, Aug-2008; PackageReference: MF05A; PackageDescription: Molded SOT-23, .115 x .063 x .040 in Body, 5 Lead, .0375 in Pitch; RoHS: N; PinCount: 5; ComponentLink1Description: Manufacturer URL; ComponentLink1URL: http://www.national.com/; ComponentLink2Description: LM8261 Datasheet; ComponentLink2URL: http://www.national.com/ds/LM/LM8261.pdf; ComponentLink3Description: LM8261 Web Page; ComponentLink3URL: http://www.national.com/pf/LM/LM8261.html; ComponentLink4Description: MF05A Package Page; ComponentLink4URL: http://www.national.com/packaging/folders/mf05a.html
footprint MF05A_N (SOT23, 5-Leads, Body 2.9x1.6mm, Pitch 0.95mm, Lead Span 2.8mm, IPC Medium Density)
footprint MF05A_L (SOT23, 5-Leads, Body 2.9x1.6mm, Pitch 0.95mm, Lead Span 2.8mm, IPC High Density)
footprint MF05A_M (SOT23, 5-Leads, Body 2.9x1.6mm, Pitch 0.95mm, Lead Span 2.8mm, IPC Low Density)
pins: 1 OUT (out), 2 V- (power), 3 IN+ (in), 4 IN- (in), 5 V+ (power)

## LM8262MM
designator U?
RRIO, High Output Current & Unlimited Cap Load Op Amp, 8-pin Mini SOIC; PartNumber: LM8262MM; Manufacturer: National Semiconductor; PackageTopMarking: ZXTT*A46; PowerWise: N; CompType: Amplifiers; High-Reliability: Y; DatasheetVersion: Jun-2002; PackageVersion: revF, Apr-2008; PackageReference: MUA08A; PackageDescription: MINI SOIC, .118 x .118 x .034in, 8 Lead, .0256in Pitch; RoHS: N; PinCount: 8; Code_JEDEC: MO-187-AA; ComponentLink1Description: Manufacturer URL; ComponentLink1URL: http://www.national.com/; ComponentLink2Description: LM8262 Datasheet; ComponentLink2URL: http://www.national.com/ds/LM/LM8262.pdf; ComponentLink3Description: LM8262 Web Page; ComponentLink3URL: http://www.national.com/pf/LM/LM8262.html; ComponentLink4Description: MUA08A Package Page; ComponentLink4URL: http://www.national.com/packaging/folders/mua08a.html
footprint MUA08A_N (TSOP, 8-Leads, Body 3x3mm, Pitch 0.65mm, IPC Medium Density)
footprint MUA08A_L (TSOP, 8-Leads, Body 3x3mm, Pitch 0.65mm, IPC High Density)
footprint MUA08A_M (TSOP, 8-Leads, Body 3x3mm, Pitch 0.65mm, IPC Low Density)
pins on every part: 4 V- (power), 8 V+ (power)
part A pins: 1 OUTA (out), 2 INA- (in), 3 INA+ (in)
part B pins: 5 INB+ (in), 6 INB- (in), 7 OUTB (out)

## LM8262MM/NOPB
designator U?
RRIO, High Output Current & Unlimited Cap Load Op Amp, 8-pin Mini SOIC, Pb-Free; PartNumber: LM8262MM/NOPB; Manufacturer: National Semiconductor; PackageTopMarking: ZXTT*A46; PowerWise: N; CompType: Amplifiers; High-Reliability: Y; DatasheetVersion: Jun-2002; PackageVersion: revF, Apr-2008; PackageReference: MUA08A; PackageDescription: MINI SOIC, .118 x .118 x .034in, 8 Lead, .0256in Pitch; RoHS: Y; PinCount: 8; Code_JEDEC: MO-187-AA; ComponentLink1Description: Manufacturer URL; ComponentLink1URL: http://www.national.com/; ComponentLink2Description: LM8262 Datasheet; ComponentLink2URL: http://www.national.com/ds/LM/LM8262.pdf; ComponentLink3Description: LM8262 Web Page; ComponentLink3URL: http://www.national.com/pf/LM/LM8262.html; ComponentLink4Description: MUA08A Package Page; ComponentLink4URL: http://www.national.com/packaging/folders/mua08a.html
footprint MUA08A_N (TSOP, 8-Leads, Body 3x3mm, Pitch 0.65mm, IPC Medium Density)
footprint MUA08A_L (TSOP, 8-Leads, Body 3x3mm, Pitch 0.65mm, IPC High Density)
footprint MUA08A_M (TSOP, 8-Leads, Body 3x3mm, Pitch 0.65mm, IPC Low Density)
pins on every part: 4 V- (power), 8 V+ (power)
part A pins: 1 OUTA (out), 2 INA- (in), 3 INA+ (in)
part B pins: 5 INB+ (in), 6 INB- (in), 7 OUTB (out)

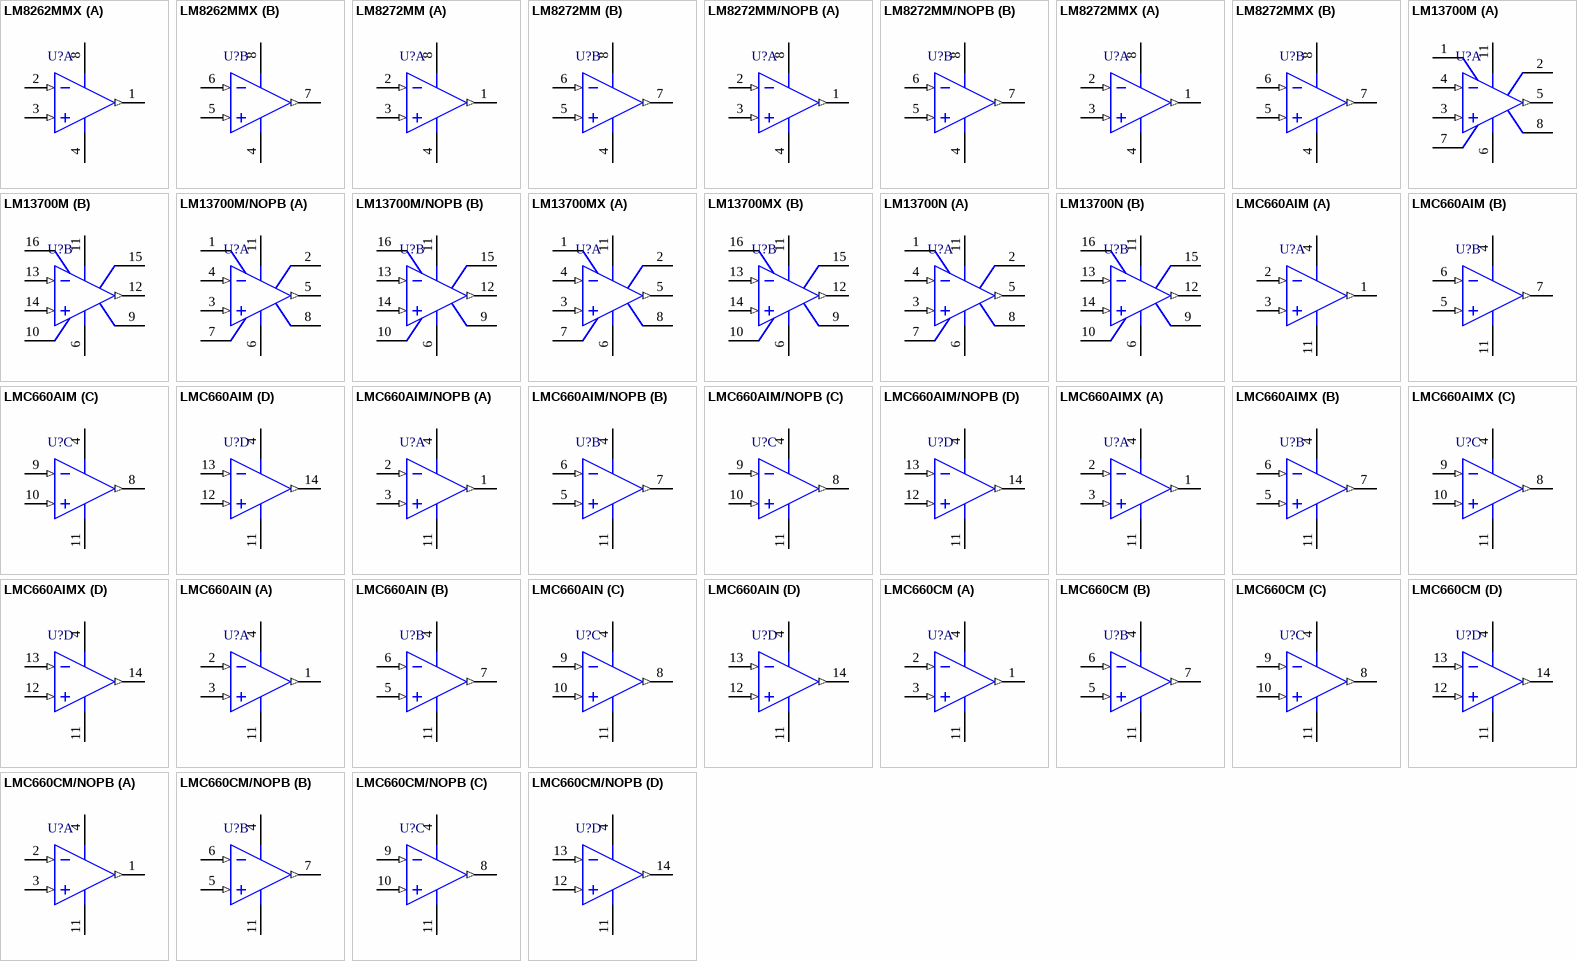
[diagram p25: symbols LM8262MMX to LMC660CM/NOPB]

## LM8262MMX
designator U?
RRIO, High Output Current & Unlimited Cap Load Op Amp, 8-pin Mini SOIC; PartNumber: LM8262MMX; Manufacturer: National Semiconductor; PackageTopMarking: ZXTT*A46; PowerWise: N; CompType: Amplifiers; High-Reliability: Y; DatasheetVersion: Jun-2002; PackageVersion: revF, Apr-2008; PackageReference: MUA08A; PackageDescription: MINI SOIC, .118 x .118 x .034in, 8 Lead, .0256in Pitch; RoHS: N; PinCount: 8; Code_JEDEC: MO-187-AA; ComponentLink1Description: Manufacturer URL; ComponentLink1URL: http://www.national.com/; ComponentLink2Description: LM8262 Datasheet; ComponentLink2URL: http://www.national.com/ds/LM/LM8262.pdf; ComponentLink3Description: LM8262 Web Page; ComponentLink3URL: http://www.national.com/pf/LM/LM8262.html; ComponentLink4Description: MUA08A Package Page; ComponentLink4URL: http://www.national.com/packaging/folders/mua08a.html
footprint MUA08A_N (TSOP, 8-Leads, Body 3x3mm, Pitch 0.65mm, IPC Medium Density)
footprint MUA08A_L (TSOP, 8-Leads, Body 3x3mm, Pitch 0.65mm, IPC High Density)
footprint MUA08A_M (TSOP, 8-Leads, Body 3x3mm, Pitch 0.65mm, IPC Low Density)
pins on every part: 4 V- (power), 8 V+ (power)
part A pins: 1 OUTA (out), 2 INA- (in), 3 INA+ (in)
part B pins: 5 INB+ (in), 6 INB- (in), 7 OUTB (out)

## LM8272MM
designator U?
RRIO, High Output Current & Unlimited Cap Load Op Amp, 8-pin Mini SOIC; PartNumber: LM8272MM; Manufacturer: National Semiconductor; PackageTopMarking: ZXTT*A60; PowerWise: N; CompType: Amplifiers; High-Reliability: Y; DatasheetVersion: Dec-2002; PackageVersion: revF, Apr-2008; PackageReference: MUA08A; PackageDescription: MINI SOIC, .118 x .118 x .034in, 8 Lead, .0256in Pitch; RoHS: N; PinCount: 8; Code_JEDEC: MO-187-AA; ComponentLink1Description: Manufacturer URL; ComponentLink1URL: http://www.national.com/; ComponentLink2Description: LM8272 Datasheet; ComponentLink2URL: http://www.national.com/ds/LM/LM8272.pdf; ComponentLink3Description: LM8272 Web Page; ComponentLink3URL: http://www.national.com/pf/LM/LM8272.html; ComponentLink4Description: MUA08A Package Page; ComponentLink4URL: http://www.national.com/packaging/folders/mua08a.html
footprint MUA08A_N (TSOP, 8-Leads, Body 3x3mm, Pitch 0.65mm, IPC Medium Density)
footprint MUA08A_L (TSOP, 8-Leads, Body 3x3mm, Pitch 0.65mm, IPC High Density)
footprint MUA08A_M (TSOP, 8-Leads, Body 3x3mm, Pitch 0.65mm, IPC Low Density)
pins on every part: 4 V- (power), 8 V+ (power)
part A pins: 1 OUTA (out), 2 INA- (in), 3 INA+ (in)
part B pins: 5 INB+ (in), 6 INB- (in), 7 OUTB (out)

## LM8272MM/NOPB
designator U?
RRIO, High Output Current & Unlimited Cap Load Op Amp, 8-pin Mini SOIC, Pb-Free; PartNumber: LM8272MM/NOPB; Manufacturer: National Semiconductor; PackageTopMarking: ZXTT*A60; PowerWise: N; CompType: Amplifiers; High-Reliability: Y; DatasheetVersion: Dec-2002; PackageVersion: revF, Apr-2008; PackageReference: MUA08A; PackageDescription: MINI SOIC, .118 x .118 x .034in, 8 Lead, .0256in Pitch; RoHS: Y; PinCount: 8; Code_JEDEC: MO-187-AA; ComponentLink1Description: Manufacturer URL; ComponentLink1URL: http://www.national.com/; ComponentLink2Description: LM8272 Datasheet; ComponentLink2URL: http://www.national.com/ds/LM/LM8272.pdf; ComponentLink3Description: LM8272 Web Page; ComponentLink3URL: http://www.national.com/pf/LM/LM8272.html; ComponentLink4Description: MUA08A Package Page; ComponentLink4URL: http://www.national.com/packaging/folders/mua08a.html
footprint MUA08A_N (TSOP, 8-Leads, Body 3x3mm, Pitch 0.65mm, IPC Medium Density)
footprint MUA08A_L (TSOP, 8-Leads, Body 3x3mm, Pitch 0.65mm, IPC High Density)
footprint MUA08A_M (TSOP, 8-Leads, Body 3x3mm, Pitch 0.65mm, IPC Low Density)
pins on every part: 4 V- (power), 8 V+ (power)
part A pins: 1 OUTA (out), 2 INA- (in), 3 INA+ (in)
part B pins: 5 INB+ (in), 6 INB- (in), 7 OUTB (out)

## LM8272MMX
designator U?
RRIO, High Output Current & Unlimited Cap Load Op Amp, 8-pin Mini SOIC; PartNumber: LM8272MMX; Manufacturer: National Semiconductor; PackageTopMarking: ZXTT*A60; PowerWise: N; CompType: Amplifiers; High-Reliability: Y; DatasheetVersion: Dec-2002; PackageVersion: revF, Apr-2008; PackageReference: MUA08A; PackageDescription: MINI SOIC, .118 x .118 x .034in, 8 Lead, .0256in Pitch; RoHS: N; PinCount: 8; Code_JEDEC: MO-187-AA; ComponentLink1Description: Manufacturer URL; ComponentLink1URL: http://www.national.com/; ComponentLink2Description: LM8272 Datasheet; ComponentLink2URL: http://www.national.com/ds/LM/LM8272.pdf; ComponentLink3Description: LM8272 Web Page; ComponentLink3URL: http://www.national.com/pf/LM/LM8272.html; ComponentLink4Description: MUA08A Package Page; ComponentLink4URL: http://www.national.com/packaging/folders/mua08a.html
footprint MUA08A_N (TSOP, 8-Leads, Body 3x3mm, Pitch 0.65mm, IPC Medium Density)
footprint MUA08A_L (TSOP, 8-Leads, Body 3x3mm, Pitch 0.65mm, IPC High Density)
footprint MUA08A_M (TSOP, 8-Leads, Body 3x3mm, Pitch 0.65mm, IPC Low Density)
pins on every part: 4 V- (power), 8 V+ (power)
part A pins: 1 OUTA (out), 2 INA- (in), 3 INA+ (in)
part B pins: 5 INB+ (in), 6 INB- (in), 7 OUTB (out)

## LM13700M
designator U?
Dual Operational Transconductance Amplifier with Linearizing Diodes and Buffers, 16-pin Narrow SOIC; PartNumber: LM13700M; Manufacturer: National Semiconductor; PackageTopMarking: NSUZXYTTE#*LM13700M; PowerWise: N; CompType: Amplifiers; High-Reliability: Y; DatasheetVersion: Jun-2004; PackageVersion: revJ, Aug-1995; PackageReference: M16A; PackageDescription: Molded Package, SO, .150in Wide, 16 Lead; RoHS: N; PinCount: 16; Code_JEDEC: MS-012-AC; Code_IPC: SOIC127P600-16; ComponentLink1Description: Manufacturer URL; ComponentLink1URL: http://www.national.com/; ComponentLink2Description: LM13700 Datasheet; ComponentLink2URL: http://www.national.com/ds/LM/LM13700.pdf; ComponentLink3Description: LM13700 Web Page; ComponentLink3URL: http://www.national.com/pf/LM/LM13700.html; ComponentLink4Description: M16A Package Page; ComponentLink4URL: http://www.national.com/packaging/folders/m16a.html
footprint M16A_N (SOIC, 16-Leads, Body 9.9x3.9mm, Pitch 1.27mm, IPC Medium Density)
footprint M16A_L (SOIC, 16-Leads, Body 9.9x3.9mm, Pitch 1.27mm, IPC High Density)
footprint M16A_M (SOIC, 16-Leads, Body 9.9x3.9mm, Pitch 1.27mm, IPC Low Density)
pins on every part: 6 V- (power), 11 V+ (power)
part A pins: 1 AMP BIAS IN1, 2 DIODE BIAS1, 3 IN1+ (in), 4 IN1- (in), 5 OUT1 (out), 7 BUF IN1, 8 BUF OUT1
part B pins: 9 BUF OUT2, 10 BUF IN2, 12 OUT2 (out), 13 IN2- (in), 14 IN2+ (in), 15 DIODE BIAS2, 16 AMP BIAS IN2

## LM13700M/NOPB
designator U?
Dual Operational Transconductance Amplifier with Linearizing Diodes and Buffers, 16-pin Narrow SOIC, Pb-Free; PartNumber: LM13700M/NOPB; Manufacturer: National Semiconductor; PackageTopMarking: NSUZXYTTE#*LM13700M; PowerWise: N; CompType: Amplifiers; High-Reliability: Y; DatasheetVersion: Jun-2004; PackageVersion: revJ, Aug-1995; PackageReference: M16A; PackageDescription: Molded Package, SO, .150in Wide, 16 Lead; RoHS: Y; PinCount: 16; Code_JEDEC: MS-012-AC; Code_IPC: SOIC127P600-16; ComponentLink1Description: Manufacturer URL; ComponentLink1URL: http://www.national.com/; ComponentLink2Description: LM13700 Datasheet; ComponentLink2URL: http://www.national.com/ds/LM/LM13700.pdf; ComponentLink3Description: LM13700 Web Page; ComponentLink3URL: http://www.national.com/pf/LM/LM13700.html; ComponentLink4Description: M16A Package Page; ComponentLink4URL: http://www.national.com/packaging/folders/m16a.html
footprint M16A_N (SOIC, 16-Leads, Body 9.9x3.9mm, Pitch 1.27mm, IPC Medium Density)
footprint M16A_L (SOIC, 16-Leads, Body 9.9x3.9mm, Pitch 1.27mm, IPC High Density)
footprint M16A_M (SOIC, 16-Leads, Body 9.9x3.9mm, Pitch 1.27mm, IPC Low Density)
pins on every part: 6 V- (power), 11 V+ (power)
part A pins: 1 AMP BIAS IN1, 2 DIODE BIAS1, 3 IN1+ (in), 4 IN1- (in), 5 OUT1 (out), 7 BUF IN1, 8 BUF OUT1
part B pins: 9 BUF OUT2, 10 BUF IN2, 12 OUT2 (out), 13 IN2- (in), 14 IN2+ (in), 15 DIODE BIAS2, 16 AMP BIAS IN2

## LM13700MX
designator U?
Dual Operational Transconductance Amplifier with Linearizing Diodes and Buffers, 16-pin Narrow SOIC; PartNumber: LM13700MX; Manufacturer: National Semiconductor; PackageTopMarking: NSUZXYTTE#*LM13700M; PowerWise: N; CompType: Amplifiers; High-Reliability: Y; DatasheetVersion: Jun-2004; PackageVersion: revJ, Aug-1995; PackageReference: M16A; PackageDescription: Molded Package, SO, .150in Wide, 16 Lead; RoHS: N; PinCount: 16; Code_JEDEC: MS-012-AC; Code_IPC: SOIC127P600-16; ComponentLink1Description: Manufacturer URL; ComponentLink1URL: http://www.national.com/; ComponentLink2Description: LM13700 Datasheet; ComponentLink2URL: http://www.national.com/ds/LM/LM13700.pdf; ComponentLink3Description: LM13700 Web Page; ComponentLink3URL: http://www.national.com/pf/LM/LM13700.html; ComponentLink4Description: M16A Package Page; ComponentLink4URL: http://www.national.com/packaging/folders/m16a.html
footprint M16A_N (SOIC, 16-Leads, Body 9.9x3.9mm, Pitch 1.27mm, IPC Medium Density)
footprint M16A_L (SOIC, 16-Leads, Body 9.9x3.9mm, Pitch 1.27mm, IPC High Density)
footprint M16A_M (SOIC, 16-Leads, Body 9.9x3.9mm, Pitch 1.27mm, IPC Low Density)
pins on every part: 6 V- (power), 11 V+ (power)
part A pins: 1 AMP BIAS IN1, 2 DIODE BIAS1, 3 IN1+ (in), 4 IN1- (in), 5 OUT1 (out), 7 BUF IN1, 8 BUF OUT1
part B pins: 9 BUF OUT2, 10 BUF IN2, 12 OUT2 (out), 13 IN2- (in), 14 IN2+ (in), 15 DIODE BIAS2, 16 AMP BIAS IN2

## LM13700N
designator U?
Dual Operational Transconductance Amplifier with Linearizing Diodes and Buffers, 16-pin MDIP; PartNumber: LM13700N; Manufacturer: National Semiconductor; PackageTopMarking: NSUZXYYTTE#*LM13700N; PowerWise: N; CompType: Amplifiers; High-Reliability: Y; DatasheetVersion: Jun-2004; PackageVersion: revG, May-2006; PackageReference: N16E; PackageDescription: MDIP, .750 x .250 x .130in, 16 Lead, .100in Pitch; RoHS: N; PinCount: 16; Code_JEDEC: MS-001-BB; ComponentLink1Description: Manufacturer URL; ComponentLink1URL: http://www.national.com/; ComponentLink2Description: LM13700 Datasheet; ComponentLink2URL: http://www.national.com/ds/LM/LM13700.pdf; ComponentLink3Description: LM13700 Web Page; ComponentLink3URL: http://www.national.com/pf/LM/LM13700.html; ComponentLink4Description: N16E Package Page; ComponentLink4URL: http://www.national.com/packaging/folders/n16e.html
footprint N16E (DIP, 16-Leads, Row Spacing 7.62mm, Pitch 2.54mm, Body 19.3x6.35mm)
pins on every part: 6 V- (power), 11 V+ (power)
part A pins: 1 AMP BIAS IN1, 2 DIODE BIAS1, 3 IN1+ (in), 4 IN1- (in), 5 OUT1 (out), 7 BUF IN1, 8 BUF OUT1
part B pins: 9 BUF OUT2, 10 BUF IN2, 12 OUT2 (out), 13 IN2- (in), 14 IN2+ (in), 15 DIODE BIAS2, 16 AMP BIAS IN2

## LMC660AIM
designator U?
CMOS Quad Operational Amplifier, 14-pin Narrow SOIC; PartNumber: LMC660AIM; Manufacturer: National Semiconductor; PackageTopMarking: NSUZXYTTE#*LMC660AIM; PowerWise: N; CompType: Amplifiers; High-Reliability: Y; DatasheetVersion: Jun-2006; PackageVersion: revJ, Jan-1996; PackageReference: M14A; PackageDescription: Molded Package S.O., .150in Wide, 14 Lead; RoHS: N; PinCount: 14; Code_JEDEC: MS-012AB; Code_IPC: SOIC127P600-14; ComponentLink1Description: Manufacturer URL; ComponentLink1URL: http://www.national.com/; ComponentLink2Description: LMC660 Datasheet; ComponentLink2URL: http://www.national.com/ds/LM/LMC660.pdf; ComponentLink3Description: LMC660 Web Page; ComponentLink3URL: http://www.national.com/pf/LM/LMC660.html; ComponentLink4Description: M14A Package Page; ComponentLink4URL: http://www.national.com/packaging/folders/m14a.html
footprint M14A_N (SOIC, 14-Leads, Body 8.6x3.9mm, Pitch 1.27mm, IPC Medium Density)
footprint M14A_L (SOIC, 14-Leads, Body 8.6x3.9mm, Pitch 1.27mm, IPC High Density)
footprint M14A_M (SOIC, 14-Leads, Body 8.6x3.9mm, Pitch 1.27mm, IPC Low Density)
pins on every part: 4 V+ (power), 11 V- (power)
part A pins: 1 OUT1 (out), 2 IN1- (in), 3 IN1+ (in)
part B pins: 5 IN2+ (in), 6 IN2- (in), 7 OUT2 (out)
part C pins: 8 OUT3 (out), 9 IN3- (in), 10 IN3+ (in)
part D pins: 12 IN4+ (in), 13 IN4- (in), 14 OUT4 (out)

## LMC660AIM/NOPB
designator U?
CMOS Quad Operational Amplifier, 14-pin Narrow SOIC, Pb-Free; PartNumber: LMC660AIM/NOPB; Manufacturer: National Semiconductor; PackageTopMarking: NSUZXYTTE#*LMC660AIM; PowerWise: N; CompType: Amplifiers; High-Reliability: Y; DatasheetVersion: Jun-2006; PackageVersion: revJ, Jan-1996; PackageReference: M14A; PackageDescription: Molded Package S.O., .150in Wide, 14 Lead; RoHS: Y; PinCount: 14; Code_JEDEC: MS-012AB; Code_IPC: SOIC127P600-14; ComponentLink1Description: Manufacturer URL; ComponentLink1URL: http://www.national.com/; ComponentLink2Description: LMC660 Datasheet; ComponentLink2URL: http://www.national.com/ds/LM/LMC660.pdf; ComponentLink3Description: LMC660 Web Page; ComponentLink3URL: http://www.national.com/pf/LM/LMC660.html; ComponentLink4Description: M14A Package Page; ComponentLink4URL: http://www.national.com/packaging/folders/m14a.html
footprint M14A_N (SOIC, 14-Leads, Body 8.6x3.9mm, Pitch 1.27mm, IPC Medium Density)
footprint M14A_L (SOIC, 14-Leads, Body 8.6x3.9mm, Pitch 1.27mm, IPC High Density)
footprint M14A_M (SOIC, 14-Leads, Body 8.6x3.9mm, Pitch 1.27mm, IPC Low Density)
pins on every part: 4 V+ (power), 11 V- (power)
part A pins: 1 OUT1 (out), 2 IN1- (in), 3 IN1+ (in)
part B pins: 5 IN2+ (in), 6 IN2- (in), 7 OUT2 (out)
part C pins: 8 OUT3 (out), 9 IN3- (in), 10 IN3+ (in)
part D pins: 12 IN4+ (in), 13 IN4- (in), 14 OUT4 (out)

## LMC660AIMX
designator U?
CMOS Quad Operational Amplifier, 14-pin Narrow SOIC; PartNumber: LMC660AIMX; Manufacturer: National Semiconductor; PackageTopMarking: NSUZXYTTE#*LMC660AIM; PowerWise: N; CompType: Amplifiers; High-Reliability: Y; DatasheetVersion: Jun-2006; PackageVersion: revJ, Jan-1996; PackageReference: M14A; PackageDescription: Molded Package S.O., .150in Wide, 14 Lead; RoHS: N; PinCount: 14; Code_JEDEC: MS-012AB; Code_IPC: SOIC127P600-14; ComponentLink1Description: Manufacturer URL; ComponentLink1URL: http://www.national.com/; ComponentLink2Description: LMC660 Datasheet; ComponentLink2URL: http://www.national.com/ds/LM/LMC660.pdf; ComponentLink3Description: LMC660 Web Page; ComponentLink3URL: http://www.national.com/pf/LM/LMC660.html; ComponentLink4Description: M14A Package Page; ComponentLink4URL: http://www.national.com/packaging/folders/m14a.html
footprint M14A_N (SOIC, 14-Leads, Body 8.6x3.9mm, Pitch 1.27mm, IPC Medium Density)
footprint M14A_L (SOIC, 14-Leads, Body 8.6x3.9mm, Pitch 1.27mm, IPC High Density)
footprint M14A_M (SOIC, 14-Leads, Body 8.6x3.9mm, Pitch 1.27mm, IPC Low Density)
pins on every part: 4 V+ (power), 11 V- (power)
part A pins: 1 OUT1 (out), 2 IN1- (in), 3 IN1+ (in)
part B pins: 5 IN2+ (in), 6 IN2- (in), 7 OUT2 (out)
part C pins: 8 OUT3 (out), 9 IN3- (in), 10 IN3+ (in)
part D pins: 12 IN4+ (in), 13 IN4- (in), 14 OUT4 (out)

## LMC660AIN
designator U?
CMOS Quad Operational Amplifier, 14-pin MDIP; PartNumber: LMC660AIN; Manufacturer: National Semiconductor; PackageTopMarking: NSUZXYYTTE#*LMC660AIN; PowerWise: N; CompType: Amplifiers; High-Reliability: Y; DatasheetVersion: Jun-2006; PackageVersion: revG, May-2006; PackageReference: N14A; PackageDescription: MDIP, .750 x .250 x.130in, 14 Lead, .100in Pitch; RoHS: N; PinCount: 14; Code_JEDEC: MS-001-AA; ComponentLink1Description: Manufacturer URL; ComponentLink1URL: http://www.national.com/; ComponentLink2Description: LMC660 Datasheet; ComponentLink2URL: http://www.national.com/ds/LM/LMC660.pdf; ComponentLink3Description: LMC660 Web Page; ComponentLink3URL: http://www.national.com/pf/LM/LMC660.html; ComponentLink4Description: N14A Package Page; ComponentLink4URL: http://www.national.com/packaging/folders/n14a.html
footprint N14A (DIP, 14-Leads, Row Spacing 7.62mm, Pitch 2.54mm, Body 19.56x6.35mm)
pins on every part: 4 V+ (power), 11 V- (power)
part A pins: 1 OUT1 (out), 2 IN1- (in), 3 IN1+ (in)
part B pins: 5 IN2+ (in), 6 IN2- (in), 7 OUT2 (out)
part C pins: 8 OUT3 (out), 9 IN3- (in), 10 IN3+ (in)
part D pins: 12 IN4+ (in), 13 IN4- (in), 14 OUT4 (out)

## LMC660CM
designator U?
CMOS Quad Operational Amplifier, 14-pin Narrow SOIC; PartNumber: LMC660CM; Manufacturer: National Semiconductor; PackageTopMarking: NSUZXYTTE#*LMC660CM; PowerWise: N; CompType: Amplifiers; High-Reliability: Y; DatasheetVersion: Jun-2006; PackageVersion: revJ, Jan-1996; PackageReference: M14A; PackageDescription: Molded Package S.O., .150in Wide, 14 Lead; RoHS: N; PinCount: 14; Code_JEDEC: MS-012AB; Code_IPC: SOIC127P600-14; ComponentLink1Description: Manufacturer URL; ComponentLink1URL: http://www.national.com/; ComponentLink2Description: LMC660 Datasheet; ComponentLink2URL: http://www.national.com/ds/LM/LMC660.pdf; ComponentLink3Description: LMC660 Web Page; ComponentLink3URL: http://www.national.com/pf/LM/LMC660.html; ComponentLink4Description: M14A Package Page; ComponentLink4URL: http://www.national.com/packaging/folders/m14a.html
footprint M14A_N (SOIC, 14-Leads, Body 8.6x3.9mm, Pitch 1.27mm, IPC Medium Density)
footprint M14A_L (SOIC, 14-Leads, Body 8.6x3.9mm, Pitch 1.27mm, IPC High Density)
footprint M14A_M (SOIC, 14-Leads, Body 8.6x3.9mm, Pitch 1.27mm, IPC Low Density)
pins on every part: 4 V+ (power), 11 V- (power)
part A pins: 1 OUT1 (out), 2 IN1- (in), 3 IN1+ (in)
part B pins: 5 IN2+ (in), 6 IN2- (in), 7 OUT2 (out)
part C pins: 8 OUT3 (out), 9 IN3- (in), 10 IN3+ (in)
part D pins: 12 IN4+ (in), 13 IN4- (in), 14 OUT4 (out)